# EAGLE library part XBEE-SS (library MyLib)
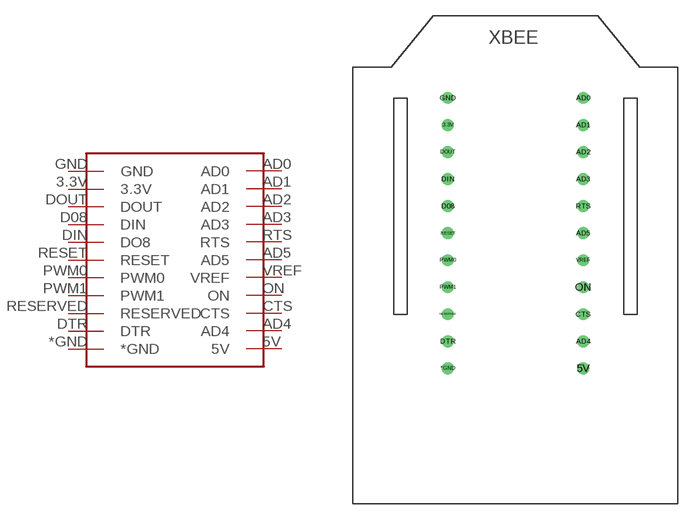
[diagram p8: symbol with the pads of XBEE-SS; footprint XBEE-SS]

Designator prefix -

## XBEE-SS  [XBEE-SS]
3.3V  3.3V
5V  5V
*GND  *GND
AD0  AD0
AD1  AD1
AD2  AD2
AD3  AD3
AD4  AD4
AD5  AD5
CTS  CTS
D08  DIN
DIN  DO8
DOUT  DOUT
DTR  DTR
GND  GND
ON  ON
PWM0  PWM0
PWM1  PWM1
RESERVED  RESERVED
RESET  RESET
RTS  RTS
VREF  VREF

## Footprint XBEE-SS (pad centres in mm)
drill 0.6: 3.3V -6.35,12.7; 5V 6.35,-10.16; *GND -6.35,-10.16; AD0 6.35,15.24; AD1 6.35,12.7; AD2 6.35,10.16; AD3 6.35,7.62; AD4 6.35,-7.62; AD5 6.35,2.54; CTS 6.35,-5.08; D08 -6.35,5.08; DIN -6.35,7.62; DOUT -6.35,10.16; DTR -6.35,-7.62; GND -6.35,15.24; ON 6.35,-2.54; PWM0 -6.35,0; PWM1 -6.35,-2.54; RESERVED -6.35,-5.08; RESET -6.35,2.54; RTS 6.35,5.08; VREF 6.35,0